# EAGLE library part OBDII (library X893)
http://www.obddiag.net/adapter.html
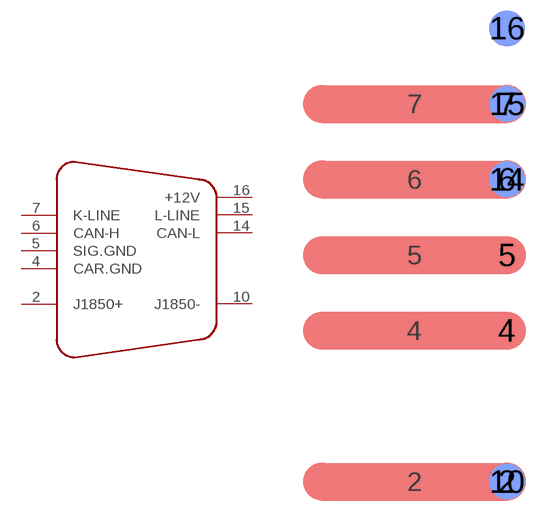
[diagram p24: symbol with the pads of OBDII; footprint OBDII]

Designator prefix JP

## OBDII  [OBDII]
2  J1850+  pas
4  CAR.GND  sup
5  SIG.GND  sup
6  CAN-H  pas
7  K-LINE  pas
10  J1850-  pas
14  CAN-L  pas
15  L-LINE  pas
16  +12V  pas

## Footprint OBDII (pad centres in mm)
smd 1.9 x 1.9: 2 3.8,-10; 4 3.8,-2; 5 3.8,2; 6 3.8,6; 7 3.8,10
smd 1.9 x 1.9 bottom: 10 3.8,-10; 14 3.8,6; 15 3.8,10; 16 3.8,14